# Altium footprint library SOD123.PcbLib: 1 footprints
Each footprint in its own frame and in the unit in brackets; x right, y up, seen from the top. Pads: shape width x height; smd on the part's side, far side on the other; paste and mask are expansions set on the pad; w line width, h text height; cw(c..) or ccw(c..) is an arc to the next point about the centre after c.
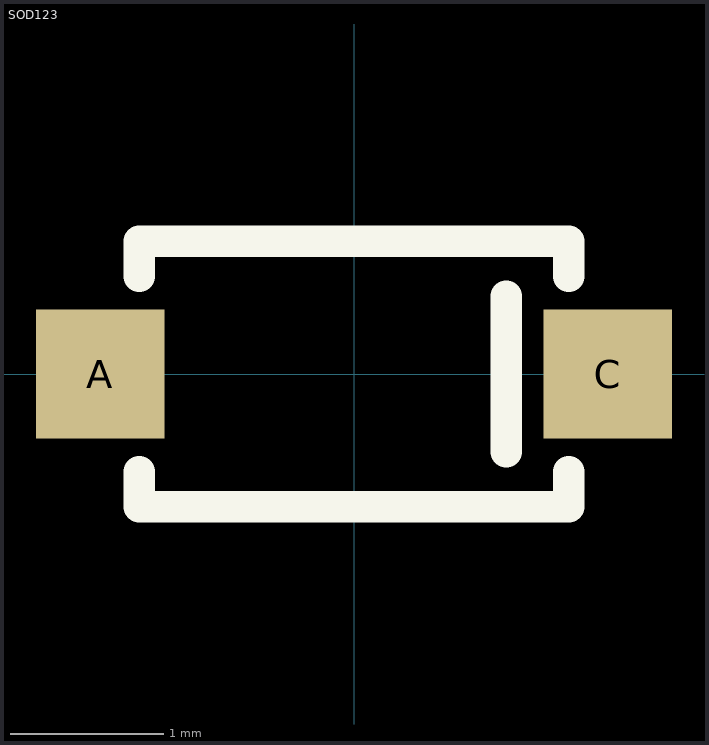
[diagram p0: the footprint, top view; thin cyan lines are the x and y axes]

## SOD123 [mil]
height 53.15
pads (2):
  rect 33x33 smd: A(-65,0) C(65,0)
Top Overlay:
  lines w8: -55,-25 -55,-34 55,-34 55,-25 ; -55,25 -55,34 55,34 55,25 ; 39,-20 39,20
3D body: height 56.42, standoff -0.67, extent -75.79,-33.46 75.79,33.46